# Altium footprint library SG__PCB_Chip.PcbLib: 121 footprints (part 8 of 8)
Each footprint in its own frame and in the unit in brackets; x right, y up, seen from the top. Pads: shape width x height; smd on the part's side, far side on the other; paste and mask are expansions set on the pad; w line width, h text height; cw(c..) or ccw(c..) is an arc to the next point about the centre after c.
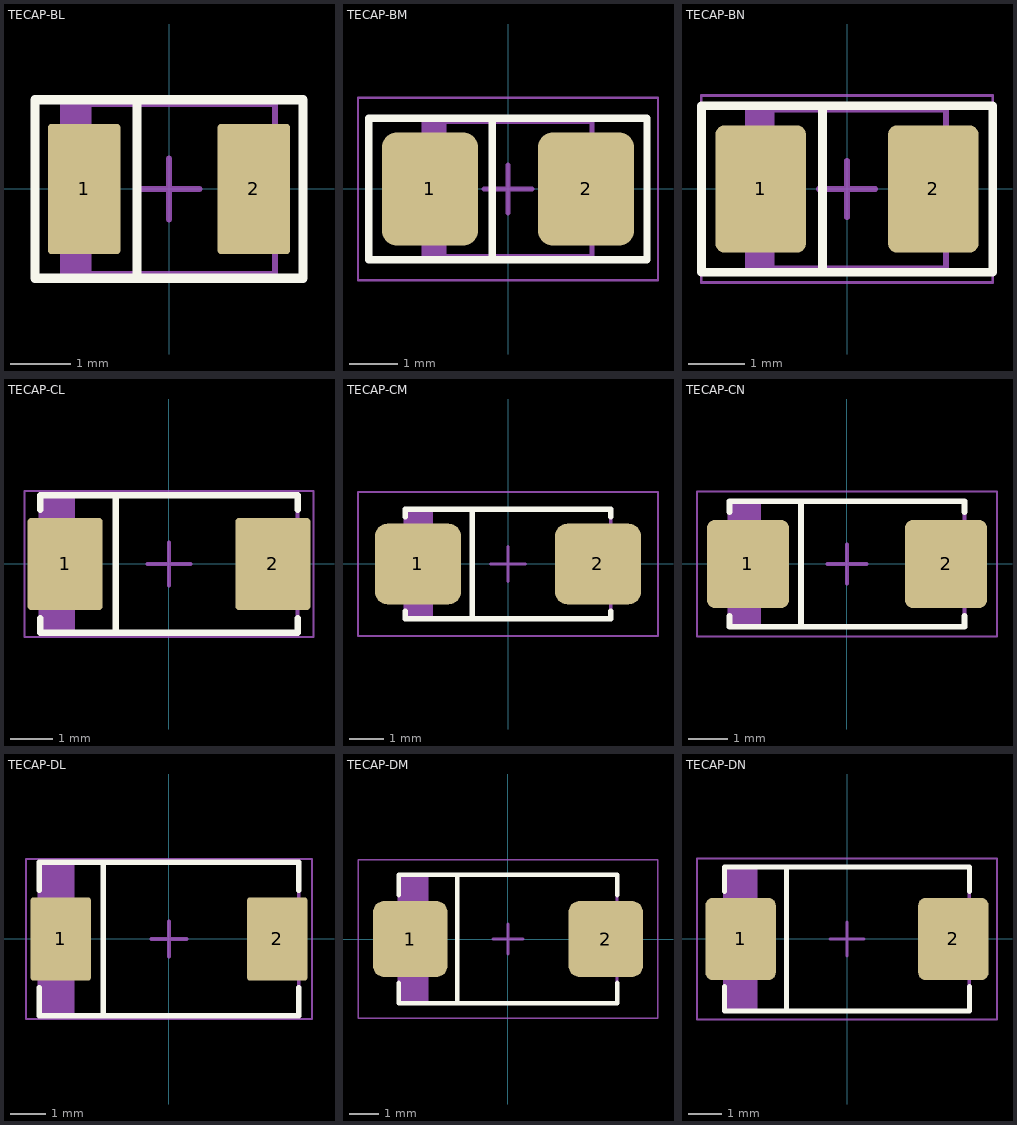
[diagram p7: the footprints below, top view; thin cyan lines are the x and y axes]

## TECAP-BL [mm] "Molded Capacitor, 2-Leads, Body 3,50x2,80mm, IPC High Density"
height 1.9
pads (2):
  rrect10% 1.2x2.15 smd: 1(-1.4,0) 2(1.4,0)
Top Overlay:
  lines w0.152: -0.53,-1.402 -0.53,1.392 ; -2.21,-1.473 1.676,-1.473 2.21,-1.473 2.21,1.219 2.21,1.473 -1.118,1.473 -2.21,1.473 -2.21,-0.61 -2.21,-1.473
Assembly Top:
  rectangle: -1.75,-1.4 -1.279,1.4
  lines w0.1: -1.75,-1.4 -1.75,1.4 1.75,1.4 1.75,-1.4 -1.75,-1.4
Courtyard Top:
  lines w0.05: -2.21,-1.5 -2.21,1.5 2.21,1.5 2.21,-1.5 -2.21,-1.5
  lines w0.1: -0.5,0 0.5,0 ; 0,-0.5 0,0.5
3D body: height 1.91, standoff 1, extent -1.6,-1.2 -1,1.2
3D body "CAPMP3528X19L.step": height 1.9, standoff 0, extent -1.97,-1.4 1.97,1.4

## TECAP-BM [mm] "Molded Capacitor, 2-Leads, Body 3,50x2,80mm, IPC Low Density"
height 1.9
pads (2):
  rrect30% 2x2.35 smd: 1(-1.625,0) 2(1.625,0)
Top Overlay:
  lines w0.152: -0.559,1.473 -0.33,1.473 -0.33,-1.397 ; -2.898,-1.473 -1.041,-1.473 2.896,-1.473 2.896,1.473 -2.898,1.473 -2.898,0.48 -2.898,-1.473
Assembly Top:
  rectangle: -1.75,-1.4 -1.279,1.4
  lines w0.1: -1.75,-1.4 -1.75,1.4 1.75,1.4 1.75,-1.4 -1.75,-1.4
Courtyard Top:
  lines w0.05: -3.125,-1.9 -3.125,1.9 3.125,1.9 3.125,-1.9 -3.125,-1.9
  lines w0.1: -0.5,0 0.5,0 ; 0,-0.5 0,0.5
3D body: height 1.91, standoff 1, extent -1.6,-1.2 -1,1.2
3D body "CAPMP3528X19L.step": height 1.9, standoff 0, extent -1.97,-1.4 1.97,1.4

## TECAP-BN [mm] "Molded Capacitor, 2-Leads, Body 3,50x2,80mm, IPC Medium Density"
height 1.9
pads (2):
  rrect20% 1.6x2.25 smd: 1(-1.525,0) 2(1.525,0)
Top Overlay:
  lines w0.152: -0.762,1.473 -0.432,1.473 -0.432,-1.397 ; -2.571,-1.473 1.676,-1.473 2.573,-1.473 2.573,1.473 -1.27,1.473 -2.571,1.473 -2.571,-0.741 -2.571,-1.473
Assembly Top:
  rectangle: -1.75,-1.4 -1.279,1.4
  lines w0.1: -1.75,-1.4 1.75,-1.4 1.75,1.4 -1.75,1.4 -1.75,-1.4
Courtyard Top:
  lines w0.05: -2.575,-1.65 2.575,-1.65 2.575,1.65 -2.575,1.65 -2.575,-1.65
  lines w0.1: -0.5,0 0.5,0 ; 0,-0.5 0,0.5
3D body: height 1.91, standoff 1, extent -1.6,-1.2 -1,1.2
3D body "CAPMP3528X19L.step": height 1.9, standoff 0, extent -1.97,-1.4 1.97,1.4

## TECAP-CL [mm] "Molded Capacitor, 2-Leads, Body 6,00x3,20mm, IPC High Density"
height 2.6
pads (2):
  rrect10% 1.75x2.15 smd: 1(-2.425,0) 2(2.425,0)
Top Overlay:
  lines w0.152: -3,-1.27 -3,-1.6 3,-1.6 3,-1.27 ; -3,1.27 -3,1.6 3,1.6 3,1.27 ; -1.676,-1.6 -1.242,-1.6 -1.242,1.6
Assembly Top:
  rectangle: -3,-1.6 -2.193,1.6
  lines w0.1: -3,-1.6 -3,1.6 3,1.6 3,-1.6 -3,-1.6
Courtyard Top:
  lines w0.05: -3.375,-1.7 -3.375,1.7 3.375,1.7 3.375,-1.7 -3.375,-1.7
  lines w0.1: -0.5,0 0.5,0 ; 0,-0.5 0,0.5
3D body: height 2.61, standoff 1, extent -2.866,-1.4 -2.134,1.4
3D body "CAPMP6032X26L.step": height 2.6, standoff 0, extent -3.22,-1.6 3.22,1.6

## TECAP-CM [mm] "Molded Capacitor, 2-Leads, Body 6,00x3,20mm, IPC Low Density"
height 2.6
pads (2):
  rrect30% 2.5x2.35 smd: 1(-2.625,0) 2(2.625,0)
Top Overlay:
  lines w0.152: -3,1.6 3,1.6 2.997,1.6 2.997,1.372 ; -2.997,-1.372 -2.997,-1.6 -3,-1.6 2.997,-1.6 2.997,-1.372 ; -2.997,1.372 -2.997,1.6 -2.921,1.6 ; -1.041,-1.6 -1.041,1.6
Assembly Top:
  rectangle: -3,-1.6 -2.193,1.6
  lines w0.1: -3,-1.6 3,-1.6 3,1.6 -3,1.6 -3,-1.6
Courtyard Top:
  lines w0.05: -4.375,-2.1 4.375,-2.1 4.375,2.1 -4.375,2.1 -4.375,-2.1
  lines w0.1: -0.5,0 0.5,0 ; 0,-0.5 0,0.5
3D body: height 2.61, standoff 1, extent -2.866,-1.4 -2.134,1.4
3D body "CAPMP6032X26L.step": height 2.6, standoff 0, extent -3.22,-1.6 3.22,1.6

## TECAP-CN [mm] "Molded Capacitor, 2-Leads, Body 6,00x3,20mm, IPC Medium Density"
height 2.6
pads (2):
  rrect20% 2.1x2.25 smd: 1(-2.525,0) 2(2.525,0)
Top Overlay:
  lines w0.152: -2.997,-1.321 -2.997,-1.6 3,-1.6 2.997,-1.6 2.997,-1.321 ; -2.997,1.321 -2.997,1.6 3,1.6 2.997,1.6 2.997,1.321 ; -1.473,-1.6 -1.168,-1.6 -1.168,1.6
Assembly Top:
  rectangle: -3,-1.6 -2.193,1.6
  lines w0.1: -3,-1.6 -3,1.6 3,1.6 3,-1.6 -3,-1.6
Courtyard Top:
  lines w0.05: -3.825,-1.85 -3.825,1.85 3.825,1.85 3.825,-1.85 -3.825,-1.85
  lines w0.1: -0.5,0 0.5,0 ; 0,-0.5 0,0.5
3D body: height 2.61, standoff 1, extent -2.866,-1.4 -2.134,1.4
3D body "CAPMP6032X26L.step": height 2.6, standoff 0, extent -3.22,-1.6 3.22,1.6

## TECAP-DL [mm] "Molded Capacitor, 2-Leads, Body 7,30x4,30mm, IPC High Density"
height 2.8
pads (2):
  rrect10% 1.7x2.35 smd: 1(-3.05,0) 2(3.05,0)
Top Overlay:
  lines w0.152: -3.658,-1.372 -3.658,-2.159 3.65,-2.159 3.65,-1.372 ; -3.658,1.372 -3.658,2.159 3.65,2.159 3.65,1.372 ; -1.956,2.159 -1.854,2.159 -1.854,-1.93 -1.854,-2.159
Assembly Top:
  rectangle: -3.65,-2.15 -2.668,2.15
  lines w0.1: -3.65,-2.15 -3.65,2.15 3.65,2.15 3.65,-2.15 -3.65,-2.15
Courtyard Top:
  lines w0.05: -4.025,-2.25 -4.025,2.25 4.025,2.25 4.025,-2.25 -4.025,-2.25
  lines w0.1: -0.5,0 0.5,0 ; 0,-0.5 0,0.5
3D body: height 2.81, standoff 1, extent -3.4,-1.9 -2.668,1.9
3D body "CAPMP7343X28L.step": height 2.8, standoff 0, extent -3.87,-2.15 3.87,2.15

## TECAP-DM [mm] "Molded Capacitor, 2-Leads, Body 7,30x4,30mm, IPC Low Density"
height 2.8
pads (2):
  rrect30% 2.5x2.55 smd: 1(-3.275,0) 2(3.275,0)
Top Overlay:
  lines w0.152: -3.658,-1.473 -3.658,-2.159 3.658,-2.159 3.658,-1.473 ; -3.658,1.473 -3.658,2.159 3.658,2.159 3.658,1.473 ; -1.905,2.159 -1.702,2.159 -1.702,-2.159
Assembly Top:
  rectangle: -3.65,-2.15 -2.668,2.15
  lines w0.1: -3.65,-2.15 -3.65,2.15 3.65,2.15 3.65,-2.15 -3.65,-2.15
Courtyard Top:
  lines w0.05: -5.025,-2.65 -5.025,2.65 5.025,2.65 5.025,-2.65 -5.025,-2.65
  lines w0.1: -0.5,0 0.5,0 ; 0,-0.5 0,0.5
3D body: height 2.81, standoff 1, extent -3.4,-1.9 -2.668,1.9
3D body "CAPMP7343X28L.step": height 2.8, standoff 0, extent -3.87,-2.15 3.87,2.15

## TECAP-DN [mm] "Molded Capacitor, 2-Leads, Body 7,30x4,30mm, IPC Medium Density"
height 2.8
pads (2):
  rrect20% 2.1x2.45 smd: 1(-3.175,0) 2(3.175,0)
Top Overlay:
  lines w0.152: -3.658,-1.422 -3.658,-2.15 3.658,-2.15 3.658,-1.422 ; -3.658,1.422 -3.658,2.15 3.658,2.15 3.658,1.422 ; -1.803,-2.108 -1.803,2.15
Assembly Top:
  rectangle: -3.65,-2.15 -2.668,2.15
  lines w0.1: -3.65,-2.15 3.65,-2.15 3.65,2.15 -3.65,2.15 -3.65,-2.15
Courtyard Top:
  lines w0.05: -4.475,-2.4 4.475,-2.4 4.475,2.4 -4.475,2.4 -4.475,-2.4
  lines w0.1: -0.5,0 0.5,0 ; 0,-0.5 0,0.5
3D body: height 2.81, standoff 1, extent -3.4,-1.9 -2.668,1.9
3D body "CAPMP7343X28L.step": height 2.8, standoff 0, extent -3.87,-2.15 3.87,2.15